# Altium schematic symbol library beeper.SchLib: 1 symbol
Pins are listed as number, name and electrical type; pins without a type are passive.

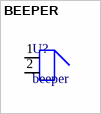
[diagram p0: symbol BEEPER]

## BEEPER
designator U?, comment beeper
footprint BEEPER_ACT_9.5MM
pins: 1, 2